# Altium footprint library 5-5530843-0 PLUG.PcbLib: 1 footprints
Each footprint in its own frame and in the unit in brackets; x right, y up, seen from the top. Pads: shape width x height; smd on the part's side, far side on the other; paste and mask are expansions set on the pad; w line width, h text height; cw(c..) or ccw(c..) is an arc to the next point about the centre after c.
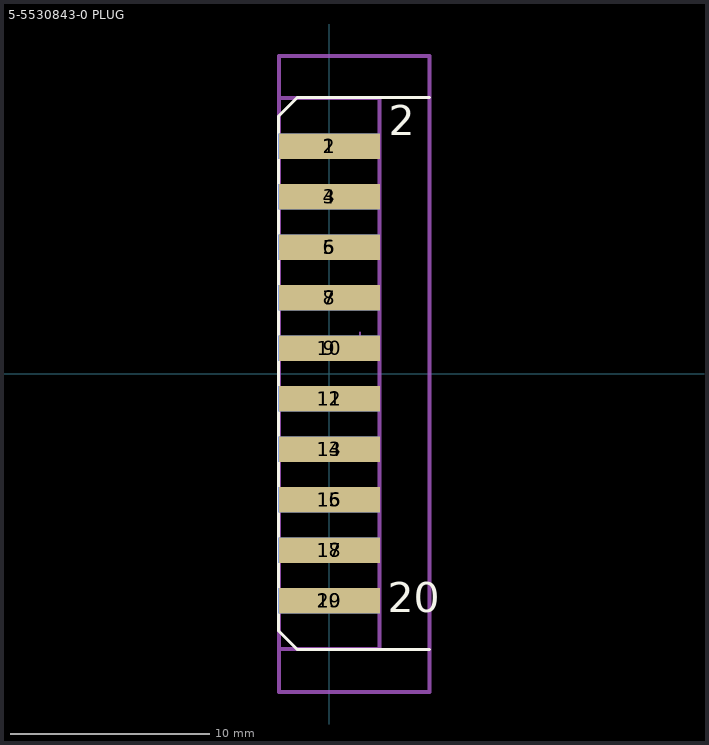
[diagram p0: the footprint, top view; thin cyan lines are the x and y axes]

## 5-5530843-0 PLUG [mil] "CONN SEC II 10 POS 100C/L PLUG"
pads (20):
  rect 200x50 smd far side mask+2.76: 1(0,450) 3(0,350) 5(0,250) 7(0,150) 9(0,50) 11(0,-50) 13(0,-150) 15(0,-250) 17(0,-350) 19(0,-450)
  rect 200x50 smd mask+2.76: 2(0,450) 4(0,350) 6(0,250) 8(0,150) 10(0,50) 12(0,-50) 14(0,-150) 16(0,-250) 18(0,-350) 20(0,-450)
Top Layer:
  lines w5.91: -100.39,-450 0,-450
Top Overlay:
  lines w5.91: 197.83,-546.06 -64.17,-546.06 -100.39,-509.84 -100.39,509.84 -64.17,546.06 197.83,546.06
  text "2" at 117.13,471.65 h59.06
  text "20" at 115.16,-472.24 h59.06
Bottom Overlay:
  lines w5.91: 100.39,-546.06 -100.39,-546.06 -100.39,510.83 -65.16,546.06 100.39,546.06
  text "1" at 144.69,471.65 h59.06
  text "19" at 213.55,-472.24 h59.06
Bottom Courtyard:
  lines w5.91: -100.39,-546.06 -100.39,546.46 100.39,546.46 100.39,-546.06 -100.39,-546.06
Bottom 3D Body:
  lines w3.94: 41.22,61.97 80.59,61.97 ; 60.91,42.28 60.91,81.65
  lines w7.87: -99.41,-545.08 -99.41,-630.91 197.83,-630.91 197.83,628.94 -99.41,628.94 -99.41,545.47 ; -99.41,-545.08 -99.41,282.61 -99.41,545.47 ; -99.41,-545.08 99.41,-545.08 99.41,545.47 -99.41,545.47
3D body "c-5-5530843-0-f-3d.stp": height 148.57, standoff -224.43, extent -537.4,-630.98 197.6,629.02